# Altium footprint library Relay.PcbLib: 2 footprints
Each footprint in its own frame and in the unit in brackets; x right, y up, seen from the top. Pads: shape width x height; smd on the part's side, far side on the other; paste and mask are expansions set on the pad; w line width, h text height; cw(c..) or ccw(c..) is an arc to the next point about the centre after c.
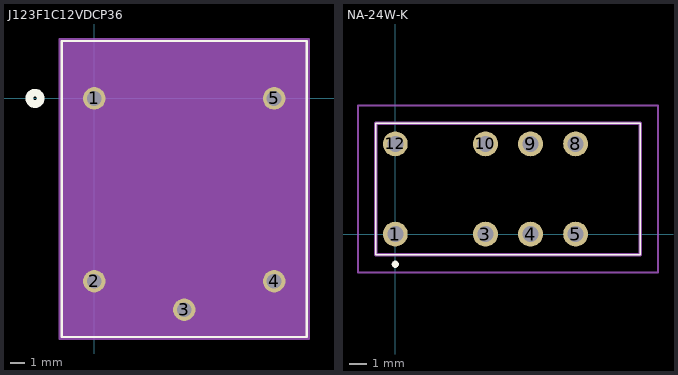
[diagram p0: the footprints below, top view; thin cyan lines are the x and y axes]

## J123F1C12VDCP36 [mil]
pads (5):
  round 59 / inner round 60 / far side round 59 hole 39 paste-29.5 mask+0: 1(0,0) 2(0,-480.31) 3(236.22,-555.12) 4(472.44,-480.31) 5(472.44,0)
Top Overlay:
  circle w20: c-155.78,0 r15
  lines w6: -85.78,-627.05 -85.78,150.95 558.22,150.95 558.22,-627.05 -85.78,-627.05
Bottom Overlay:
  circle w20: c-155.78,0 r15
Mechanical 13:
  circle w20: c0,75 r15
  lines w1: -80.78,-622.05 -80.78,145.95 553.22,145.95 553.22,-622.05 -80.78,-622.05
Mechanical 15:
  region: 563.22,155.95 -90.78,155.95 -90.78,-632.05 563.22,-632.05
  lines w6: -90.78,-632.05 563.22,-632.05 563.22,155.95 -90.78,155.95 -90.78,-632.05
3D body "J123F1C.stp": height 669.29, standoff -145.28, extent -75,-628.86 554.92,138.86

## NA-24W-K [mm]
pads (8):
  round 1.4 hole 0.9: 1(0,0) 3(5.08,0) 4(7.62,0) 5(10.16,0) 8(10.16,5.08) 9(7.62,5.08) 10(5.08,5.08) 12(0,5.08)
Top Overlay:
  lines w0.1: -1.1,-1.16 13.8,-1.16 13.8,6.24 -1.1,6.24 -1.1,-1.16
  lines w0.2: 0,-1.8 cw(c0,-1.7) 0,-1.6 cw(c0,-1.7) 0,-1.8
Mechanical 13:
  lines w0.2: -1.1,-1.16 13.8,-1.16 13.8,6.24 -1.1,6.24 -1.1,-1.16
Mechanical 15:
  lines w0.1: -2.1,-2.16 14.8,-2.16 14.8,7.24 -2.1,7.24 -2.1,-2.16
3D body: height 9.7, standoff 0, extent -1.143,-1.176 13.843,6.223